# EAGLE library part ESP8266 (library esp8266)
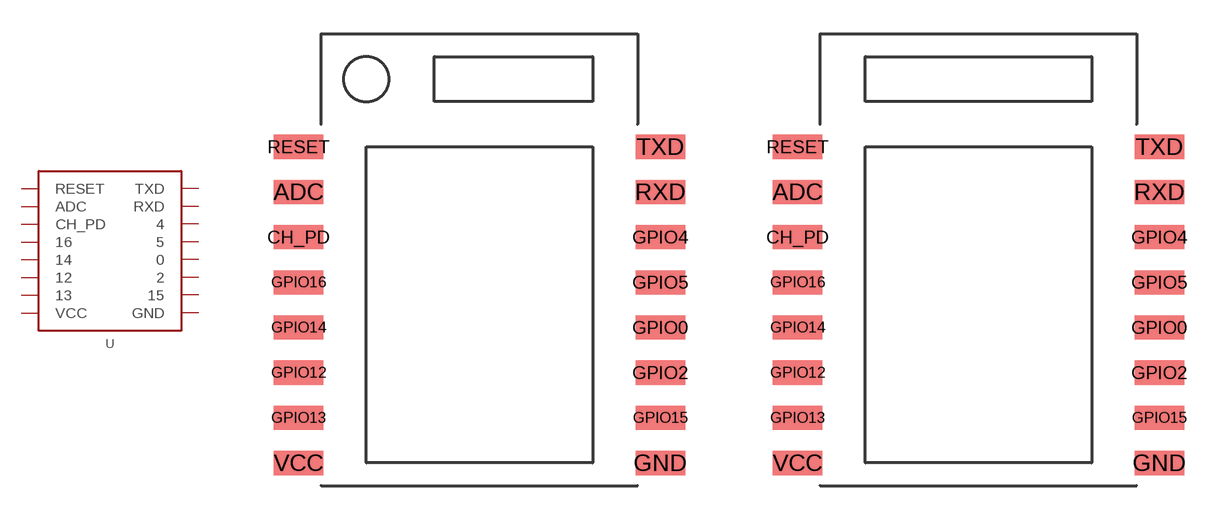
[diagram p0: symbol with the pads of ESP-07B; footprints ESP-07B, ESP-12]

Designator prefix -

## ESP826607B  [ESP-07B]
ADC  ADC  in
CH_PD  CH_PD  in
GND  GND  pwr
GPIO0  0
GPIO2  2
GPIO4  4
GPIO5  5
GPIO12  12
GPIO13  13
GPIO14  14
GPIO15  15
GPIO16  16
RESET  RESET  in
RXD  RXD  in
TXD  TXD  out
VCC  VCC  pwr

## ESP826612  [ESP-12]
Pads as for ESP-07B

## Footprint ESP-07B (pad centres in mm)
ESP8266 ESP-07b This is the 16 pin variant of the ESP8266 ESP-07
smd 2.184 x 1.067: ADC -8,-2; CH_PD -8,-4; GND 8,-14; GPIO0 8,-8; GPIO2 8,-10; GPIO4 8,-4; GPIO5 8,-6; GPIO12 -8,-10; GPIO13 -8,-12; GPIO14 -8,-8; GPIO15 8,-12; GPIO16 -8,-6; RESET -8,0; RXD 8,-2; TXD 8,0; VCC -8,-14

## Footprint ESP-12 (pad centres in mm)
smd 2.184 x 1.067: ADC -8,3.08; CH_PD -8,1.08; GND 8,-8.92; GPIO0 8,-2.92; GPIO2 8,-4.92; GPIO4 8,1.08; GPIO5 8,-0.92; GPIO12 -8,-4.92; GPIO13 -8,-6.92; GPIO14 -8,-2.92; GPIO15 8,-6.92; GPIO16 -8,-0.92; RESET -8,5.08; RXD 8,3.08; TXD 8,5.08; VCC -8,-8.92